# EAGLE library part MC14495 (library Hexadecimal-7-segment)
Motorola Semiconductor MC14495 HEXADECIMAL-TO-SEVEN SEGMENT LATCH/DECODER LED DRIVER
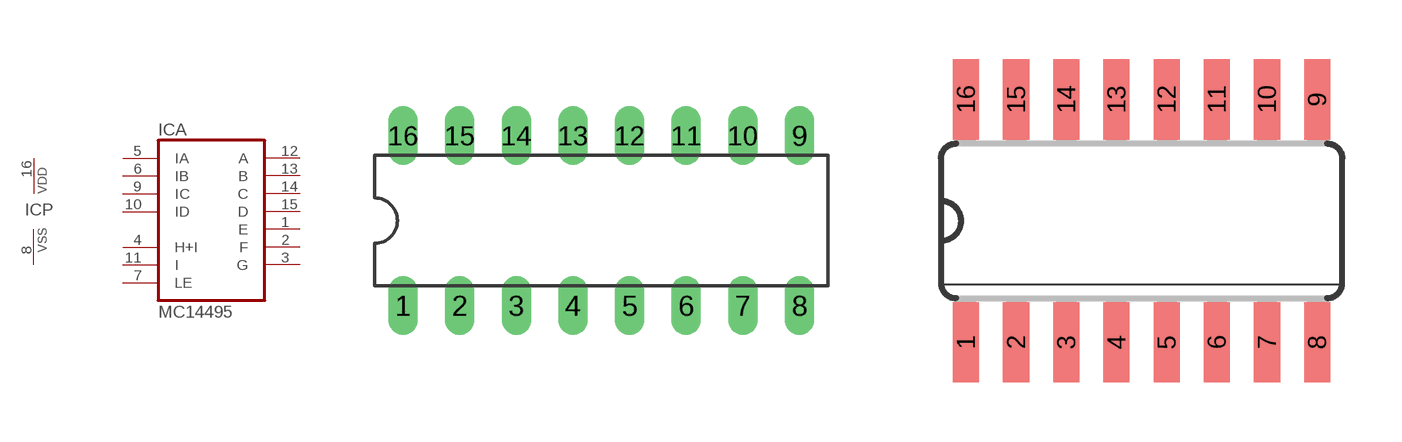
[diagram p0: symbol with the pads of DIL16; footprints DIL16, SO16]

Designator prefix IC; gates A=MC14495 P=PWRN

## MC14495N  [DIL16]
1  A:E  out
2  A:F  out
3  A:G  out
4  A:H+I  in
5  A:IA  in
6  A:IB  in
7  A:LE  in
8  P:VSS  pwr
9  A:IC  in
10  A:ID  in
11  A:I  in
12  A:A  out
13  A:B  out
14  A:C  out
15  A:D  out
16  P:VDD  pwr

## MC14495D  [SO16]
1  A:IB  in
2  A:IC  in
3  A:H+I  in
4  A:I  in
5  A:LE  in
6  A:ID  in
7  A:IA  in
8  P:VSS  pwr
9  A:E  out
10  A:D  out
11  A:C  out
12  A:B  out
13  A:A  out
14  A:G  out
15  A:F  out
16  P:VDD  pwr

## Footprint DIL16 (pad centres in mm)
Dual In Line Package
drill 0.813 long: 1 -8.89,-3.81; 2 -6.35,-3.81; 3 -3.81,-3.81; 4 -1.27,-3.81; 5 1.27,-3.81; 6 3.81,-3.81; 7 6.35,-3.81; 8 8.89,-3.81; 9 8.89,3.81; 10 6.35,3.81; 11 3.81,3.81; 12 1.27,3.81; 13 -1.27,3.81; 14 -3.81,3.81; 15 -6.35,3.81; 16 -8.89,3.81

## Footprint SO16 (pad centres in mm)
Small Outline package 150 mil
smd 0.66 x 2.032: 1 -4.445,-3.073; 2 -3.175,-3.073; 3 -1.905,-3.073; 4 -0.635,-3.073; 5 0.635,-3.073; 6 1.905,-3.073; 7 3.175,-3.073; 8 4.445,-3.073; 9 4.445,3.073; 10 3.175,3.073; 11 1.905,3.073; 12 0.635,3.073; 13 -0.635,3.073; 14 -1.905,3.073; 15 -3.175,3.073; 16 -4.445,3.073